# Altium schematic symbol library SCH - POWER - LINEAR VREG - TI TPS76501-Q1_D_8.SchLib: 1 symbol
Pins are listed as number, name and electrical type; pins without a type are passive.

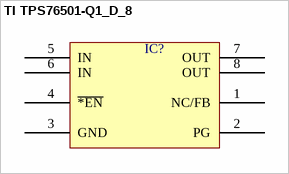
[diagram p0: symbol TI TPS76501-Q1_D_8]

## TI TPS76501-Q1_D_8
designator IC?  (value not drawn)
pins: 1 NC/FB, 2 PG, 3 GND, 4 ~{*EN}, 5 IN, 6 IN, 7 OUT, 8 OUT